# Altium schematic symbol library UCSD Protolab.SchLib: 137 symbols (part 2 of 2)
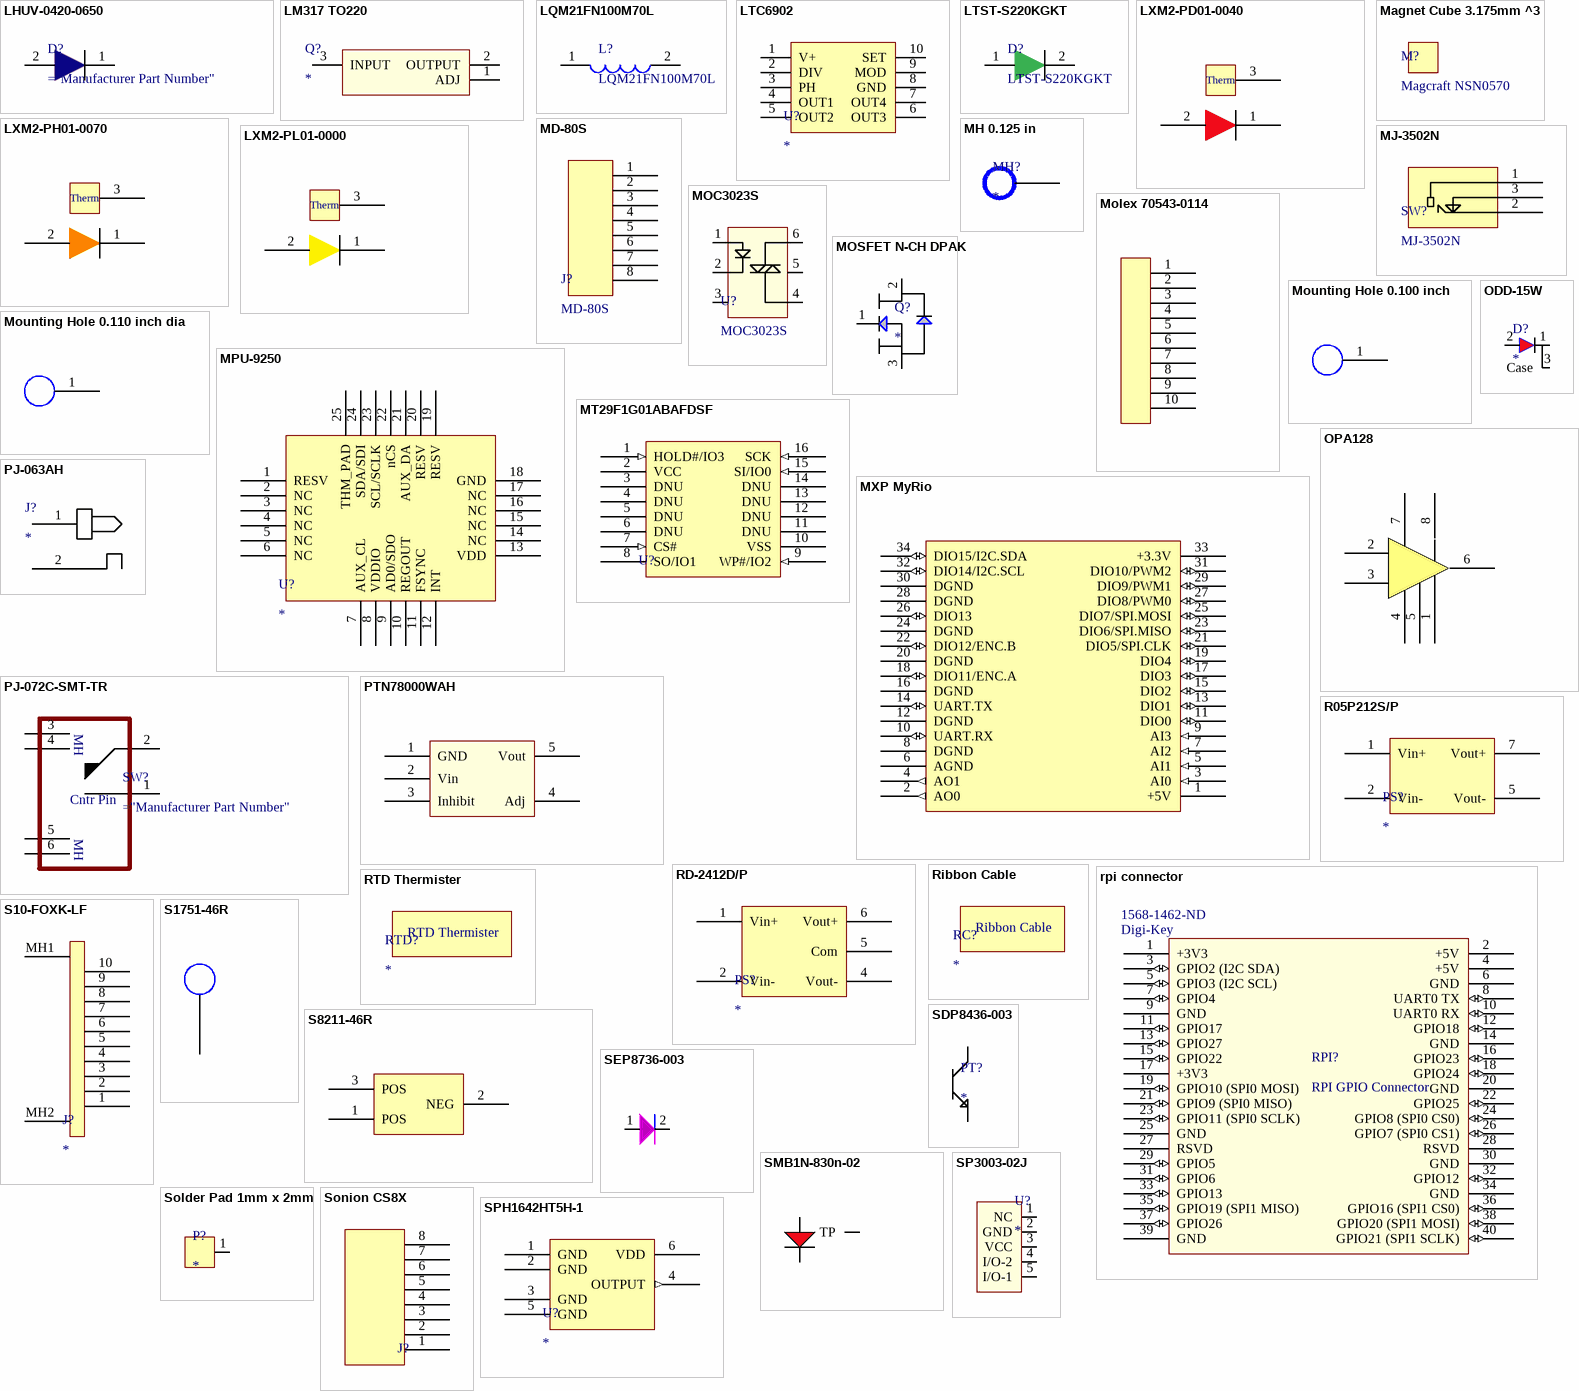
[diagram p4: symbols LHUV-0420-0650 to SPH1642HT5H-1]

## RD-2412D/P
designator PS?
CONV DC/DC 2W 24VIN +/-12VOUT
footprint RD-2412D/P (CONV DC/DC 2W 24VIN +/-12VOUT)
pins: 1 Vin+ (power), 2 Vin- (power), 4 Vout- (power), 5 Com (power), 6 Vout+ (power)

## Ribbon Cable
designator RC?  (mechanical)
Ribbon Cable; Manuf Part Number: *

## rpi connector
designator RPI?, comment RPI GPIO Connector  Supplier 1: Digi-Key  Supplier Part Number 1: 1568-1462-ND
GPIO Header for Raspberry Pi A+/B+/Pi 2/Pi 3 - 2x20; Manufacturer: SparkFun Electronics; Manufacturer Part Number: PRT-14017; Nils Minor: author; nilsminor@web.de: mail; RoHS: RoHS Compliant; Category: Development Boards, Kits, Programmers; Stock 1: 150; Pricing 1: 1=1.84 (EUR); Part Status: Active; Accessory Type: Connector; For Use With/Related Products: Raspberry Pi; ComponentLink1URL: https://cdn.sparkfun.com/datasheets/Dev/RaspberryPi/12313.pdf; ComponentLink1Description: https://cdn.sparkfun.com/datasheets/Dev/RaspberryPi/12313.pdf
footprint rpi
pins: 1 +3V3 (power), 2 +5V (power), 3 GPIO2 (I2C SDA) (io), 4 +5V (power), 5 GPIO3 (I2C SCL) (io), 6 GND (power), 7 GPIO4 (io), 8 UART0 TX (io), 9 GND (power), 10 UART0 RX (io), 11 GPIO17 (io), 12 GPIO18 (io), 13 GPIO27 (io), 14 GND (power), 15 GPIO22 (io), 16 GPIO23 (io), 17 +3V3 (power), 18 GPIO24 (io), 19 GPIO10 (SPI0 MOSI) (io), 20 GND (power), 21 GPIO9 (SPI0 MISO) (io), 22 GPIO25 (io), 23 GPIO11 (SPI0 SCLK) (io), 24 GPIO8 (SPI0 CS0) (io), 25 GND (power), 26 GPIO7 (SPI0 CS1) (io), 27 RSVD, 28 RSVD, 29 GPIO5 (io), 30 GND (power), 31 GPIO6 (io), 32 GPIO12 (io), 33 GPIO13 (io), 34 GND, 35 GPIO19 (SPI1 MISO) (io), 36 GPIO16 (SPI1 CS0) (io), 37 GPIO26 (io), 38 GPIO20 (SPI1 MOSI) (io), 39 GND (power), 40 GPIO21 (SPI1 SCLK) (io)

## RTD Thermister
designator RTD?  (mechanical)
RTD Thermister; Manuf Part Number: *

## S10-FOXK-LF
designator J?
FOX, FPC-FFC side entry 10 pin connector
footprint S10-FOXK-LF (FOX, FPC-FFC side entry 10 pin connector)
pins: 1 (power), 2 (power), 3 (power), 4 (power), 5 (power), 6 (power), 7 (power), 8 (power), 9 (power), 10 (power), MH1 (power), MH2 (power)

## S1751-46R
designator TP?
PC TEST POINT TIN SMD; Manufacturer: Harwin Inc.; Supplier 1: Digi-Key; RoHS: RoHS Compliant; Stock 1: 275112; Pricing 1: 1=0.29, 10=0.272, 25=0.2324, 50=0.2032, 100=0.1888, 250=0.167, 500=0.15972, 1000=0.13068 (USD); Packaging: Cut Tape (CT); Type: PC Test Point; Terminal: 0.128" x 0.065" x 0.079" (3.25mm x 1.65mm x 2.00mm) Brass, Tin Plated; Mounting Type: Surface Mount; Material: Copper Alloy; Color: Natural; ComponentLink1URL: http://cdn.harwin.com/pdfs/S1751.pdf; ComponentLink1Description: http://cdn.harwin.com/pdfs/S1751.pdf; Supplier Part Number 1: 952-1478-1-ND; Manufacturer Part Number: S1751-46R; Category: Test and Measurement
footprint S1751-46R (PC TEST POINT TIN SMD)
pins: 1

## S8211-46R
designator BT?
HOLDER BATT COIN CR2032/20MM; Manufacturer: Harwin Inc.; Battery Type, Function: Coin Cell, Retainer; Style: Retainer; Battery Cell Size: Coin, 20.0mm; Number of Cells: 1; Battery Series: 2016, 2020, 2025, 2032; Supplier 1: Digi-Key; RoHS: RoHS Compliant; Stock 1: 3345; Pricing 1: 1=0.66, 10=0.59, 50=0.524, 100=0.4585, 250=0.4192 (USD); Mounting Type: PCB, Surface Mount; Termination Style: SMD (SMT) Tab; Height Above Board: 0.157" (4.00mm); Operating Temperature: -40°C ~ 105°C; ComponentLink1URL: http://cdn.harwin.com/pdfs/S8211R.pdf; ComponentLink1Description: http://cdn.harwin.com/pdfs/S8211R.pdf; Supplier Part Number 1: 952-1735-1-ND; Manufacturer Part Number: S8211-46R; Category: Battery Products
footprint S8211-46R (HOLDER BATT COIN CR2032/20MM)
pins: 1 POS (power), 2 NEG (power), 3 POS (power)

## SDP8436-003
designator PT?
PHOTOTRANSISTOR NPN SIDE LOOK Honeywell
footprint SDP8436-003 (PHOTOTRANSISTOR NPN SIDE LOOK Honeywell)
pins: 1, 2

## SEP8736-003
designator D?
EMITTER IR 880NM 50MA RADIAL Honeywell
footprint SEP8736-003 (EMITTER IR 880NM 50MA RADIAL Honeywell)
pins: 1 A, 2 C

## SMB1N-830n-02
designator D?
Roithner Power LED
footprint SMB1N-830n-02 (Roithner Power LED)
pins: 1 C, 2 A, 3 TP

## Solder Pad 1mm x 2mm
designator P?
Solder Pad 1mm x 2mm
footprint Solder Pad 1mm x 2mm
pins: 1

## Sonion CS8X
designator J?  (value not drawn)
Sonion CS8X
footprint Sonion CS8X
pins: 1, 2, 3, 4, 5, 6, 7, 8

## SP3003-02J
designator U?
LittelFuse
footprint SOT353
pins: 1 NC, 2 GND (power) "NC", 3 VCC (power) "NC", 4 I/O-2 (io) "NC", 5 I/O-1 (io) "NC"

## SPH1642HT5H-1
designator U?
Knowles, Wide bandwidth, low noise Microphone
footprint SPH1642HT5H-1 (Knowles, Wide bandwidth, low noise Microphone)
pins: 1 GND (power), 2 GND (power), 3 GND (power), 4 OUTPUT (out), 5 GND (power), 6 VDD (power)

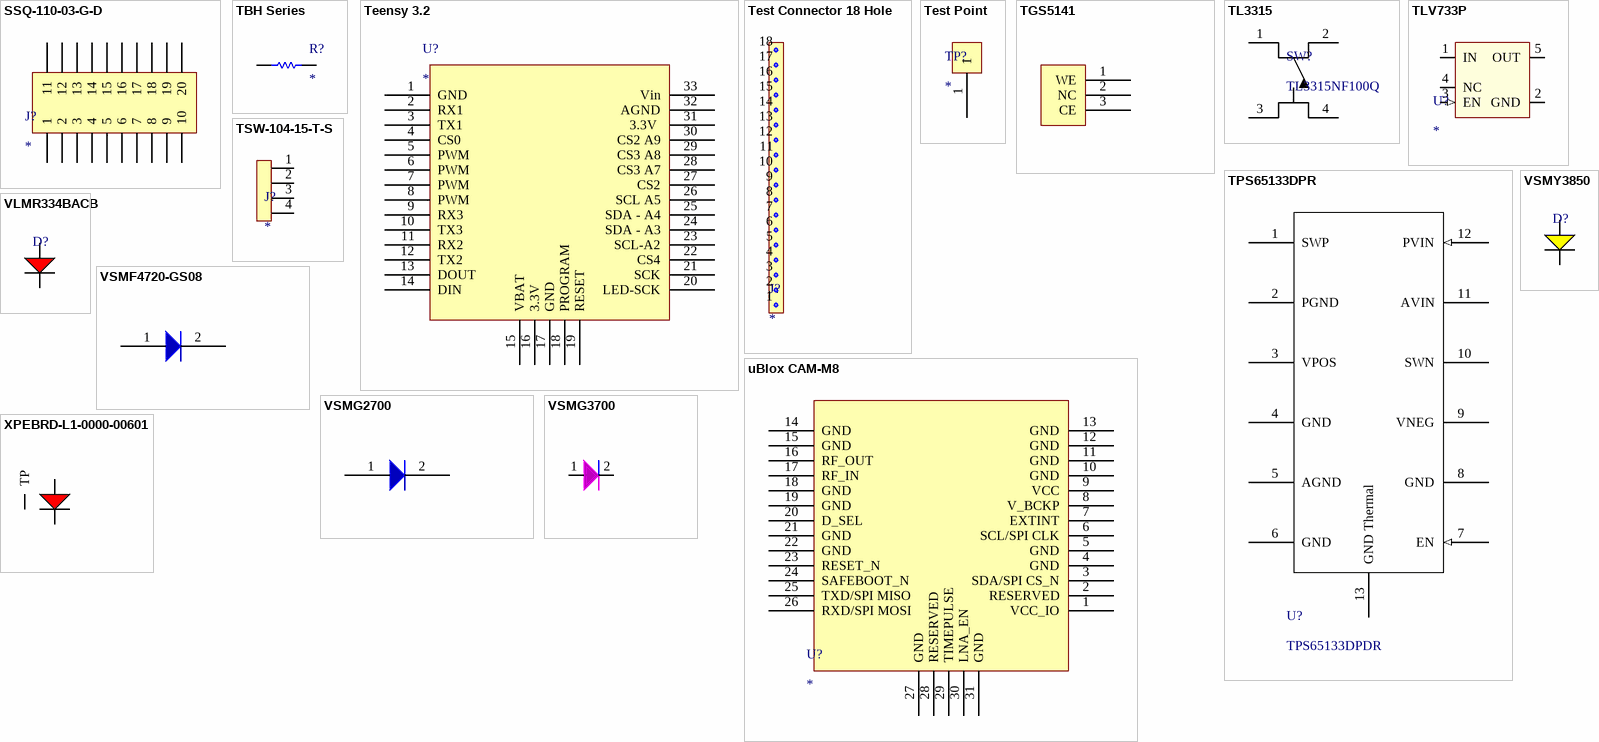
[diagram p3: symbols SSQ-110-03-G-D to XPEBRD-L1-0000-00601]

## SSQ-110-03-G-D
designator J?
SAMTEC SSQ 2x10
footprint SSQ-110-03-G-D (SAMTEC 2-10)
footprint SSQ-110-03-G-D - top (SAMTEC 2-10)
pins: 1, 2, 3, 4, 5, 6, 7, 8, 9, 10, 11, 12, 13, 14, 15, 16, 17, 18, 19, 20

## TBH Series
designator R?
TBH Series Power Resistor Ohmite
footprint TBH (TBH Series TO220 Resistor with Ohmite heatsink E series)
pins: 1, 3

## Teensy 3.2
designator U?
Teensy 3.2
footprint Teensy 3.2
pins: 1 GND, 2 RX1, 3 TX1, 4 CS0, 5 PWM, 6 PWM, 7 PWM, 8 PWM, 9 RX3, 10 TX3, 11 RX2, 12 TX2, 13 DOUT, 14 DIN, 15 VBAT, 16 3.3V, 17 GND, 18 PROGRAM, 19 RESET, 20 LED-SCK, 21 SCK, 22 CS4, 23 SCL-A2, 24 SDA - A3, 25 SDA - A4, 26 SCL A5, 27 CS2, 28 CS3 A7, 29 CS3 A8, 30 CS2 A9, 31 3.3V , 32 AGND, 33 Vin

## Test Connector 18 Hole
designator J?
Test Points on 100mil centeres
footprint Test Connector 18 Hole (Test Points on 100mil centeres)
pins: 1, 2, 3, 4, 5, 6, 7, 8, 9, 10, 11, 12, 13, 14, 15, 16, 17, 18

## Test Point
designator TP?
Test Point Hole 0.01
footprint Test Point
pins: 1 "Test Point Hole 10mil"

## TGS5141
designator GS?
Figaro CO gas sensor
footprint TGS5141 (Figaro CO gas sensor)
pins: 1 WE, 2 NC "CE", 3 CE "NC"

## TL3315
designator SW?, comment TL3315NF100Q
SWITCH TACTILE SPST-NO 0.05A 15V; Manufacturer: E-Switch; Switch Function: Off-Mom; Contact Rating @ Voltage: 0.05A @ 15VDC; Actuator Type: Snap Dome; Actuator Height off PCB, from Pins: 0.55mm; Actuator Orientation: Top Actuated; Outline: 4.50mm x 4.50mm; Illumination: Non-Illuminated; Operating Force: 100gf; Switch Travel: 0.20mm; Mechanical Life: 1,000,000 Cycles; Supplier 1: Digi-Key; RoHS: RoHS Compliant; Stock 1: 0; Pricing 1: 1=0.21, 10=0.207, 25=0.2004, 50=0.193, 100=0.1823, 250=0.1716, 500=0.16446, 1000=0.12513 (USD); Packaging: Cut Tape (CT); Circuit: SPST-NO; Mounting Type: Surface Mount; Termination Style: Gull Wing; Illumination Voltage (Nominal): -; Illumination Type, Color: -; Ingress Protection: -; Features: -; Actuator Material: -; Operating Temperature: -20°C ~ 70°C; ComponentLink1URL: http://spec_sheets.e-switch.com/specs/P010336.pdf; ComponentLink1Description: http://spec_sheets.e-switch.com/specs/P010336.pdf; Supplier Part Number 1: EG4620CT-ND; Manufacturer Part Number: TL3315NF100Q; Category: Switches
footprint TL3115 (SWITCH TACTILE SPST-NO 0.05A 15V)
pins: 1 "TL3315 SPST Switch", 2, 3, 4

## TLV733P
designator U?
IC REG LINEAR 3.3V 300MA SOT23-5
footprint SOT23127P600-8N (SOT23 TI)
pins: 1 IN (power), 2 GND (power), 3 EN (in), 4 NC, 5 OUT (power)

## TPS65133DPR
designator U?, comment TPS65133DPDR
IC AMOLED DVR DUAL 200MA 12SON; Manufacturer: Texas Instruments; Voltage - Input: 2.9 V ~ 5 V; Number of Outputs: 2; Voltage - Output: 5V, -5V; Supplier 1: Digi-Key; RoHS: RoHS Compliant; Stock 1: 2025; Pricing 1: 1=2.73, 10=2.462, 25=2.206, 100=1.9836, 250=1.76132, 500=1.539, 750=1.39365, 1000=1.06875 (USD); Packaging: Digi-Reel®; Applications: Converter, AMOLED Display; Operating Temperature: -40°C ~ 85°C; Mounting Type: Surface Mount; Package / Case: 12-WFDFN Exposed Pad; Supplier Device Package: 12-WSON (3x3); ComponentLink1URL: http://www.ti.com/lit/ds/symlink/tps65133.pdf; ComponentLink1Description: http://www.ti.com/lit/ds/symlink/tps65133.pdf; Supplier Part Number 1: 296-40874-6-ND; Manufacturer Part Number: TPS65133DPDR; Category: Integrated Circuits (ICs)
footprint PSON45P300X100_HS-13N (PSON, 12-Leads, Body 3.00x3.00mm, Pitch 0.45mm, Thermal Pad 2.05x1.23mm, IPC Medium Density)
pins: 1 SWP, 2 PGND, 3 VPOS (power), 4 GND, 5 AGND, 6 GND, 7 EN (in), 8 GND, 9 VNEG (power), 10 SWN, 11 AVIN, 12 PVIN (in), 13 GND Thermal

## TSW-104-15-T-S
designator J?
CONN HEADER 4POS .100" SNGL
footprint TSW-104-15-T-S (CONN HEADER 4POS .100" SNGL)
pins: 1, 2, 3, 4

## uBlox CAM-M8
designator U?
uBlox GPS
footprint uBlox CAM-M8 (uBlox GPS)
pins: 1 VCC_IO (power), 2 RESERVED, 3 SDA/SPI CS_N, 4 GND (power), 5 GND (power), 6 SCL/SPI CLK, 7 EXTINT, 8 V_BCKP, 9 VCC (power), 10 GND (power), 11 GND (power), 12 GND (power), 13 GND (power), 14 GND (power), 15 GND (power), 16 RF_OUT, 17 RF_IN, 18 GND (power), 19 GND (power), 20 D_SEL, 21 GND (power), 22 GND (power), 23 RESET_N, 24 SAFEBOOT_N, 25 TXD/SPI MISO, 26 RXD/SPI MOSI, 27 GND (power), 28 RESERVED, 29 TIMEPULSE, 30 LNA_EN, 31 GND (power)

## VLMR334BACB
designator D?  (value not drawn)
Vishay VLMR334BACB RED PLCC-2
footprint VLMR334BACB (Vishay VLMR334BACB RED PLCC-2)
pins: 1 C, 2 C

## VSMF4720-GS08
designator D?
EMITTER IR 870NM 100MA SMD; Manufacturer: Vishay Semiconductor Opto Division; Radiant Intensity (Ie) Min @ If: 10mW/sr @ 100mA; Voltage - Forward (Vf) (Typ): 1.45V; Viewing Angle: 120°; Supplier 1: Digi-Key; Manufacturer Part Number: VSMF4720-GS08; RoHS: RoHS Compliant; Category: Optoelectronics; Stock 1: 3922; Pricing 1: 1=1.1, 10=0.847, 25=0.704, 100=0.605, 250=0.528, 500=0.462 (USD); Packaging: Cut Tape (CT); Type: IR; Current - DC Forward (If) (Max): 100mA; Wavelength: 870nm; Orientation: Top View; Operating Temperature: -40°C ~ 85°C (TA); Mounting Type: Surface Mount; Package / Case: 2-SMD, J-Lead; ComponentLink1URL: http://www.vishay.com/docs/81923/vsmf4720.pdf; ComponentLink1Description: http://www.vishay.com/docs/81923/vsmf4720.pdf; Supplier Part Number 1: VSMF4720-GS08CT-ND
footprint PLCC2
pins: 1 A, 2 C

## VSMG2700
designator D?, comment VSMG2700-GS08
EMITTER IR 830NM 100MA SMD; Manufacturer: Vishay Semiconductor Opto Division; Radiant Intensity (Ie) Min @ If: 6mW/sr @ 100mA; Voltage - Forward (Vf) (Typ): 1.5V; Viewing Angle: 120°; Supplier 1: Digi-Key; RoHS: RoHS Compliant; Stock 1: 29900; Pricing 1: 1=1.55, 10=1.242, 25=0.9488, 100=0.8625, 250=0.759, 500=0.63826, 750=0.56925 (USD); Packaging: Cut Tape (CT); Type: IR; Current - DC Forward (If) (Max): 100mA; Wavelength: 830nm; Orientation: Top View; Operating Temperature: -40°C ~ 85°C (TA); Mounting Type: Surface Mount; Package / Case: 2-SMD, J-Lead; ComponentLink1URL: http://www.vishay.com/docs/81472/vsmg2700.pdf; ComponentLink1Description: http://www.vishay.com/docs/81472/vsmg2700.pdf; Supplier Part Number 1: 751-1255-1-ND; Manufacturer Part Number: VSMG2700-GS08; Category: Optoelectronics
footprint PLCC2 - duplicate
pins: 1 A, 2 C

## VSMG3700
designator D?
EMITTER IR 850NM PLCC-2
footprint vsmg3700
pins: 1 A, 2 C

## VSMY3850
designator D?  (value not drawn)
Vishay VSMY3850 IR
footprint VSMY3850 (Vishay VSMY3850 IR LED PLCC-2)
pins: 1 C, 2 C

## XPEBRD-L1-0000-00601
designator D?
CREE XLAMP XP-E2 COLOR LEDS
footprint XPEBRD-L1-0000-00601 (CREE XLAMP XP-E2 COLOR LEDS)
pins: 1 C, 2 A, 3 TP